# Altium footprint library PcbLib1.PcbLib: 3 footprints
Each footprint in its own frame and in the unit in brackets; x right, y up, seen from the top. Pads: shape width x height; smd on the part's side, far side on the other; paste and mask are expansions set on the pad; w line width, h text height; cw(c..) or ccw(c..) is an arc to the next point about the centre after c.
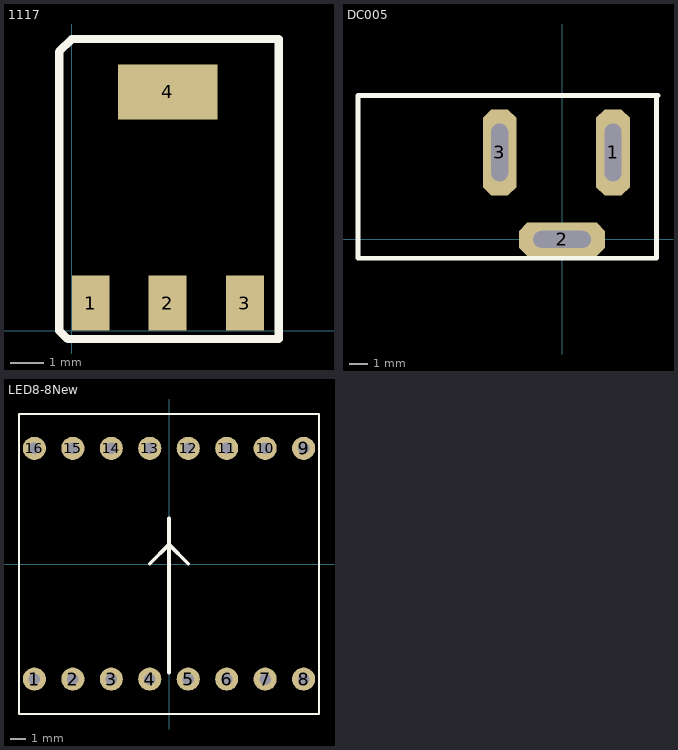
[diagram p0: the footprints below, top view; thin cyan lines are the x and y axes]

## 1117 [mm]
height 0.254
pads (4):
  rect 1.14x1.65 smd: 1(0.57,0.825) 2(2.88,0.825) 3(5.2,0.825)
  rect 3x1.65 smd: 4(2.885,7.175)
Top Overlay:
  lines w0.254: -0.381,0 -0.127,-0.254 6.223,-0.254 6.223,8.763 0,8.763 -0.381,8.382 -0.381,0

## DC005 [mil]
height 20
pads (3):
  oct 70x180 hole 35 slot 120 at 90 deg: 1(106.3,181.1) 3(-129.92,181.1)
  oct 180x70 hole 35 slot 120 at 0 deg: 2(0,0)
Top Overlay:
  lines w10: 193.7,300 196.85,296.85 196.85,-39.37 -425.2,-39.37 -425.2,300 200,300

## LED8-8New [mil]
height 200
pads (16):
  round 60 hole 30: 1(-350,-299.21) 2(-250,-299.21) 3(-150,-299.21) 4(-50,-299.21) 5(50,-299.21) 6(150,-299.21) 7(250,-299.21) 8(350,-299.21) 9(350,300.79) 10(250,300.79) 11(150,300.79) 12(50,300.79) 13(-50,300.79) 14(-150,300.79) 15(-250,300.79) 16(-350,300.79)
Top Overlay:
  lines w6: -390,-390 390,-390 390,390 -390,390 -390,-390
  lines w10: -50,0.79 0,50.79 50,0.79 ; 0,-281.89 0,118.11